# EAGLE library part 1365-62 (library EW_Connectors)
DUAL ROW STRAIGHT HEADER 1364 SERIES. 1.27mm x 1.27mm. Without Fixing Post. SMT Source: http://www.leotronics.co.uk/Conexcon/Data%20Sheets/sec.%20A/1364ing.pdf
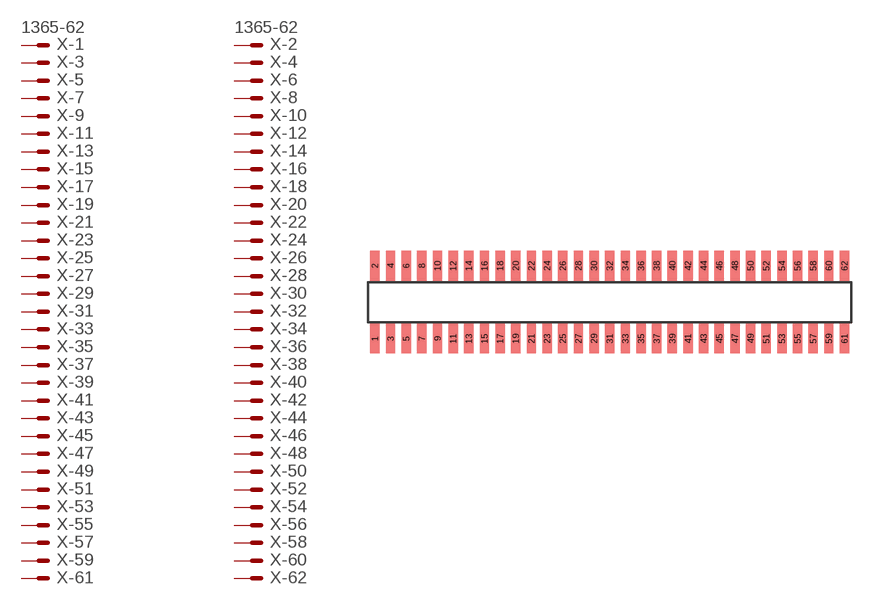
[diagram p148: symbol with the pads of 1365-62; footprint 1365-62]

Designator prefix X; gates -1=MVAL-29 -2=MVAL-29 -3=M-40 -4=M-40 -5=M-40 -6=M-40 -7=M-40 -8=M-40 -9=M-40 -10=M-40 -11=M-40 -12=M-40 -13=M-40 -14=M-40 -15=M-40 -16=M-40 -17=M-40 -18=M-40 -19=M-40 -20=M-40 -21=M-40 -22=M-40 -23=M-40 -24=M-40 -25=M-40 -26=M-40 -27=M-40 -28=M-40 -29=M-40 -30=M-40 -31=M-40 -32=M-40 -33=M-40 -34=M-40 -35=M-40 -36=M-40 -37=M-40 -38=M-40 -39=M-40 -40=M-40 -41=M-40 -42=M-40 -43=M-40 -44=M-40 -45=M-40 -46=M-40 -47=M-40 -48=M-40 -49=M-40 -50=M-40 -51=M-40 -52=M-40 -53=M-40 -54=M-40 -55=M-40 -56=M-40 -57=M-40 -58=M-40 -59=M-40 -60=M-40 -61=M-40 -62=M-40

## 1365-62 (OC_FARNELL: unknown; OC_NEWARK: unknown)  [1365-62]
1  -1:S  pas
2  -2:S  pas
3  -3:S  pas
4  -4:S  pas
5  -5:S  pas
6  -6:S  pas
7  -7:S  pas
8  -8:S  pas
9  -9:S  pas
10  -10:S  pas
11  -11:S  pas
12  -12:S  pas
13  -13:S  pas
14  -14:S  pas
15  -15:S  pas
16  -16:S  pas
17  -17:S  pas
18  -18:S  pas
19  -19:S  pas
20  -20:S  pas
21  -21:S  pas
22  -22:S  pas
23  -23:S  pas
24  -24:S  pas
25  -25:S  pas
26  -26:S  pas
27  -27:S  pas
28  -28:S  pas
29  -29:S  pas
30  -30:S  pas
31  -31:S  pas
32  -32:S  pas
33  -33:S  pas
34  -34:S  pas
35  -35:S  pas
36  -36:S  pas
37  -37:S  pas
38  -38:S  pas
39  -39:S  pas
40  -40:S  pas
41  -41:S  pas
42  -42:S  pas
43  -43:S  pas
44  -44:S  pas
45  -45:S  pas
46  -46:S  pas
47  -47:S  pas
48  -48:S  pas
49  -49:S  pas
50  -50:S  pas
51  -51:S  pas
52  -52:S  pas
53  -53:S  pas
54  -54:S  pas
55  -55:S  pas
56  -56:S  pas
57  -57:S  pas
58  -58:S  pas
59  -59:S  pas
60  -60:S  pas
61  -61:S  pas
62  -62:S  pas

## Footprint 1365-62 (pad centres in mm)
DUAL ROW STRAIGHT HEADER 1364 SERIES. 1.27mm x 1.27mm. Without Fixing Post. SMT Source: http://www.leotronics.co.uk/Conexcon/Data%20Sheets/sec.%20A/1364ing.pdf
smd 0.76 x 2.4: 1 -19.05,-2.95; 2 -19.05,2.95; 3 -17.78,-2.95; 4 -17.78,2.95; 5 -16.51,-2.95; 6 -16.51,2.95; 7 -15.24,-2.95; 8 -15.24,2.95; 9 -13.97,-2.95; 10 -13.97,2.95; 11 -12.7,-2.95; 12 -12.7,2.95; 13 -11.43,-2.95; 14 -11.43,2.95; 15 -10.16,-2.95; 16 -10.16,2.95; 17 -8.89,-2.95; 18 -8.89,2.95; 19 -7.62,-2.95; 20 -7.62,2.95; 21 -6.35,-2.95; 22 -6.35,2.95; 23 -5.08,-2.95; 24 -5.08,2.95; 25 -3.81,-2.95; 26 -3.81,2.95; 27 -2.54,-2.95; 28 -2.54,2.95; 29 -1.27,-2.95; 30 -1.27,2.95; 31 0,-2.95; 32 0,2.95; 33 1.27,-2.95; 34 1.27,2.95; 35 2.54,-2.95; 36 2.54,2.95; 37 3.81,-2.95; 38 3.81,2.95; 39 5.08,-2.95; 40 5.08,2.95; 41 6.35,-2.95; 42 6.35,2.95; 43 7.62,-2.95; 44 7.62,2.95; 45 8.89,-2.95; 46 8.89,2.95; 47 10.16,-2.95; 48 10.16,2.95; 49 11.43,-2.95; 50 11.43,2.95; 51 12.7,-2.95; 52 12.7,2.95; 53 13.97,-2.95; 54 13.97,2.95; 55 15.24,-2.95; 56 15.24,2.95; 57 16.51,-2.95; 58 16.51,2.95; 59 17.78,-2.95; 60 17.78,2.95; 61 19.05,-2.95; 62 19.05,2.95